# Altium schematic symbol library CDSOD323-T05LC.SchLib: 1 symbol
Pins are listed as number, name and electrical type; pins without a type are passive.

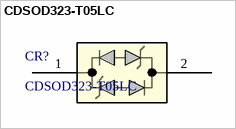
[diagram p0: symbol CDSOD323-T05LC]

## CDSOD323-T05LC
designator CR?
Description; Manufacturer_Name: Bourns Electronics; Copyright: Copyright (C) 2025 Ultra Librarian. All rights reserved.; Manufacturer_Part_Number: CDSOD323-T05LC; RefDes: RefDes; Type: Type
footprint CDSOD323_BRN
pins: 1, 2